# Altium schematic symbol library Optocoupler.SchLib: 1 symbol
Pins are listed as number, name and electrical type; pins without a type are passive.

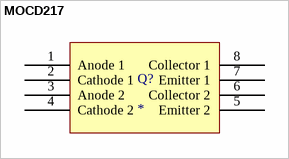
[diagram p0: symbol MOCD217]

## MOCD217
designator Q?
Optocoupler; Digi-Key Part Number: MOCD217R2MCT-ND
footprint SOIC8
pins: 1 Anode 1, 2 Cathode 1, 3 Anode 2, 4 Cathode 2, 5 Emitter 2, 6 Collector 2, 7 Emitter 1, 8 Collector 1